# EAGLE library part NOKIA_3310/5110_BOB (library LCD_NOKIA_3310-5110_BreakoutBoard)
LCD NOKIA 3310/5110 Breakout Board PCD8544 Controller Design by Giovanni Bernardo www.settorezero.com
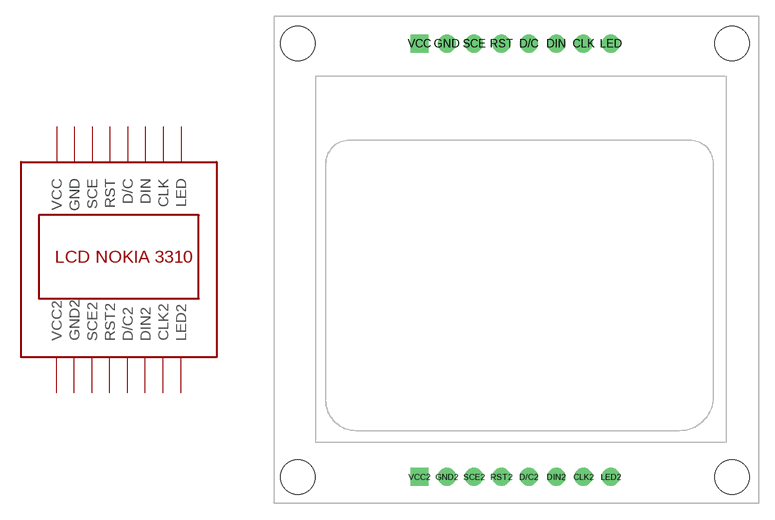
[diagram p0: symbol with the pads of NOKIA_3310/5110_BOB; footprint NOKIA_3310/5110_BOB]

Designator prefix -

## NOKIA_3310/5110_BOB  [NOKIA_3310/5110_BOB]
CLK  CLK  in
CLK2  CLK2  in
D/C  D/C  in
D/C2  D/C2  in
DIN  DIN  in
DIN2  DIN2  in
GND  GND  pwr
GND2  GND2  pwr
LED  LED  pwr
LED2  LED2  pwr
RST  RST  in
RST2  RST2  in
SCE  SCE  in
SCE2  SCE2  in
VCC  VCC  pwr
VCC2  VCC2  pwr

## Footprint NOKIA_3310/5110_BOB (pad centres in mm)
LCD NOKIA 3310/5110 Breakout Board PCD8544 Controller
drill 0.8 pad 1.676: CLK 27.94,-2.54; CLK2 27.94,-42.795; D/C 22.86,-2.54; D/C2 22.86,-42.795; DIN 25.4,-2.54; DIN2 25.4,-42.795; GND 15.24,-2.54; GND2 15.24,-42.795; LED 30.48,-2.54; LED2 30.48,-42.795; RST 20.32,-2.54; RST2 20.32,-42.795; SCE 17.78,-2.54; SCE2 17.78,-42.795
drill 0.8 pad 1.676 square: VCC 12.698,-2.54; VCC2 12.698,-42.795
hole 3.2 at 1.405,-2.54
hole 3.2 at 41.727,-2.54
hole 3.2 at 1.405,-42.795
hole 3.2 at 41.727,-42.795